# EAGLE library part 691401700010B (library WR-TBL Spring Clamp)
WR-TBL Serie 401B - 5.00 mm Screwless Vertical Entry - 2.0 mm 2 Wires KIND PROPERTIES Pitch 5 mm MATERIAL PROPERTIES Insulator Material PA66 Insulator Flammability Rating UL94 V-0 Contact Material Brass Contact Plating Tin Wire Guard Material Stainless Steel GENERAL INFORMATION Operating Temperature -40 up to +105 °C Compliance RoHS ELECTRICAL PROPERTIES IR cULus 10 A IR VDE 16 A Working Voltage [cULus] 300 V (AC) Working Voltage [VDE] 450 V (AC) Withstanding Voltage [cULus] 2000 V (AC) Contact Resistance [cULus] 20 mΩ Contact Resistance [VDE] 20 mΩ Mechanical Properties Wire Strip Length 9 up to 10 (mm) Wire Properties Solid Wire Section (AWG) 14 to 24 (AWG) Solid Wire Section (Metric) 2.08 to 0.205 (mm²) Stranded Wire Section (AWG) 14 to 24 (AWG) Stranded Wire Section (Metric) 2.08 to 0.205 (mm²) CERTIFICATION cULus Approval E315414 VDE Approval 40036896 Packaging Properties Packaging Box Details see: www.we-online.com/en/components/products/TBL_5_00_401B_SCREWLESS_VERTICAL_ENTRY_2_0MM2_WIRES_6914017000XXB/ Updated by Ella Wu 2019-12-31 2019(C) Würth Elektronik
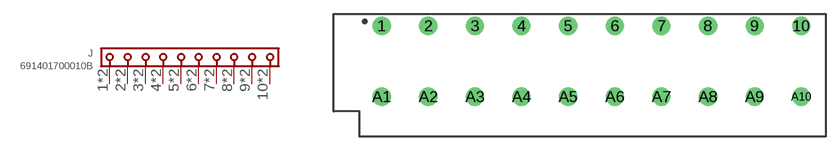
[diagram p106: symbol with the pads of 691401700010B; footprint 691401700010B]

Designator prefix J

## 691401700010B (APPLICATION: Screwless; DATASHEET: https://www.we-online.com/redexpert/spec/691401700010B?ae; IR-UL: 10A; MODULARITY: No; MOUNT: THT; PART-NUMBER: 691401700010B; PINS: 10; PITCH: 5mm; TYPE: Vertical; VALUE: 691401700010B; WIRE: 14 to 24 (AWG) 0.2 to 2.5 (mm²); WORKING-VOLTAGE-UL: 300V (AC))  [691401700010B]
1  1  pas
2  2  pas
3  3  pas
4  4  pas
5  5  pas
6  6  pas
7  7  pas
8  8  pas
9  9  pas
10  10  pas
A1  1  pas
A2  2  pas
A3  3  pas
A4  4  pas
A5  5  pas
A6  6  pas
A7  7  pas
A8  8  pas
A9  9  pas
A10  10  pas

## Footprint 691401700010B (pad centres in mm)
WR-TBL Serie 401B - 5.00 mm Screwless Vertical Entry - 2.0 mm 2 Wires Max Height = 14mm , Pitch 5mm , 10pins
drill 1.3: 1 -22.5,3.81; 2 -17.5,3.81; 3 -12.5,3.81; 4 -7.5,3.81; 5 -2.5,3.81; 6 2.5,3.81; 7 7.5,3.81; 8 12.5,3.81; 9 17.5,3.81; 10 22.5,3.81; A1 -22.5,-3.81; A2 -17.5,-3.81; A3 -12.5,-3.81; A4 -7.5,-3.81; A5 -2.5,-3.81; A6 2.5,-3.81; A7 7.5,-3.81; A8 12.5,-3.81; A9 17.5,-3.81; A10 22.5,-3.81